# Altium footprint library my LIB.PcbLib: 14 footprints
Each footprint in its own frame and in the unit in brackets; x right, y up, seen from the top. Pads: shape width x height; smd on the part's side, far side on the other; paste and mask are expansions set on the pad; w line width, h text height; cw(c..) or ccw(c..) is an arc to the next point about the centre after c.
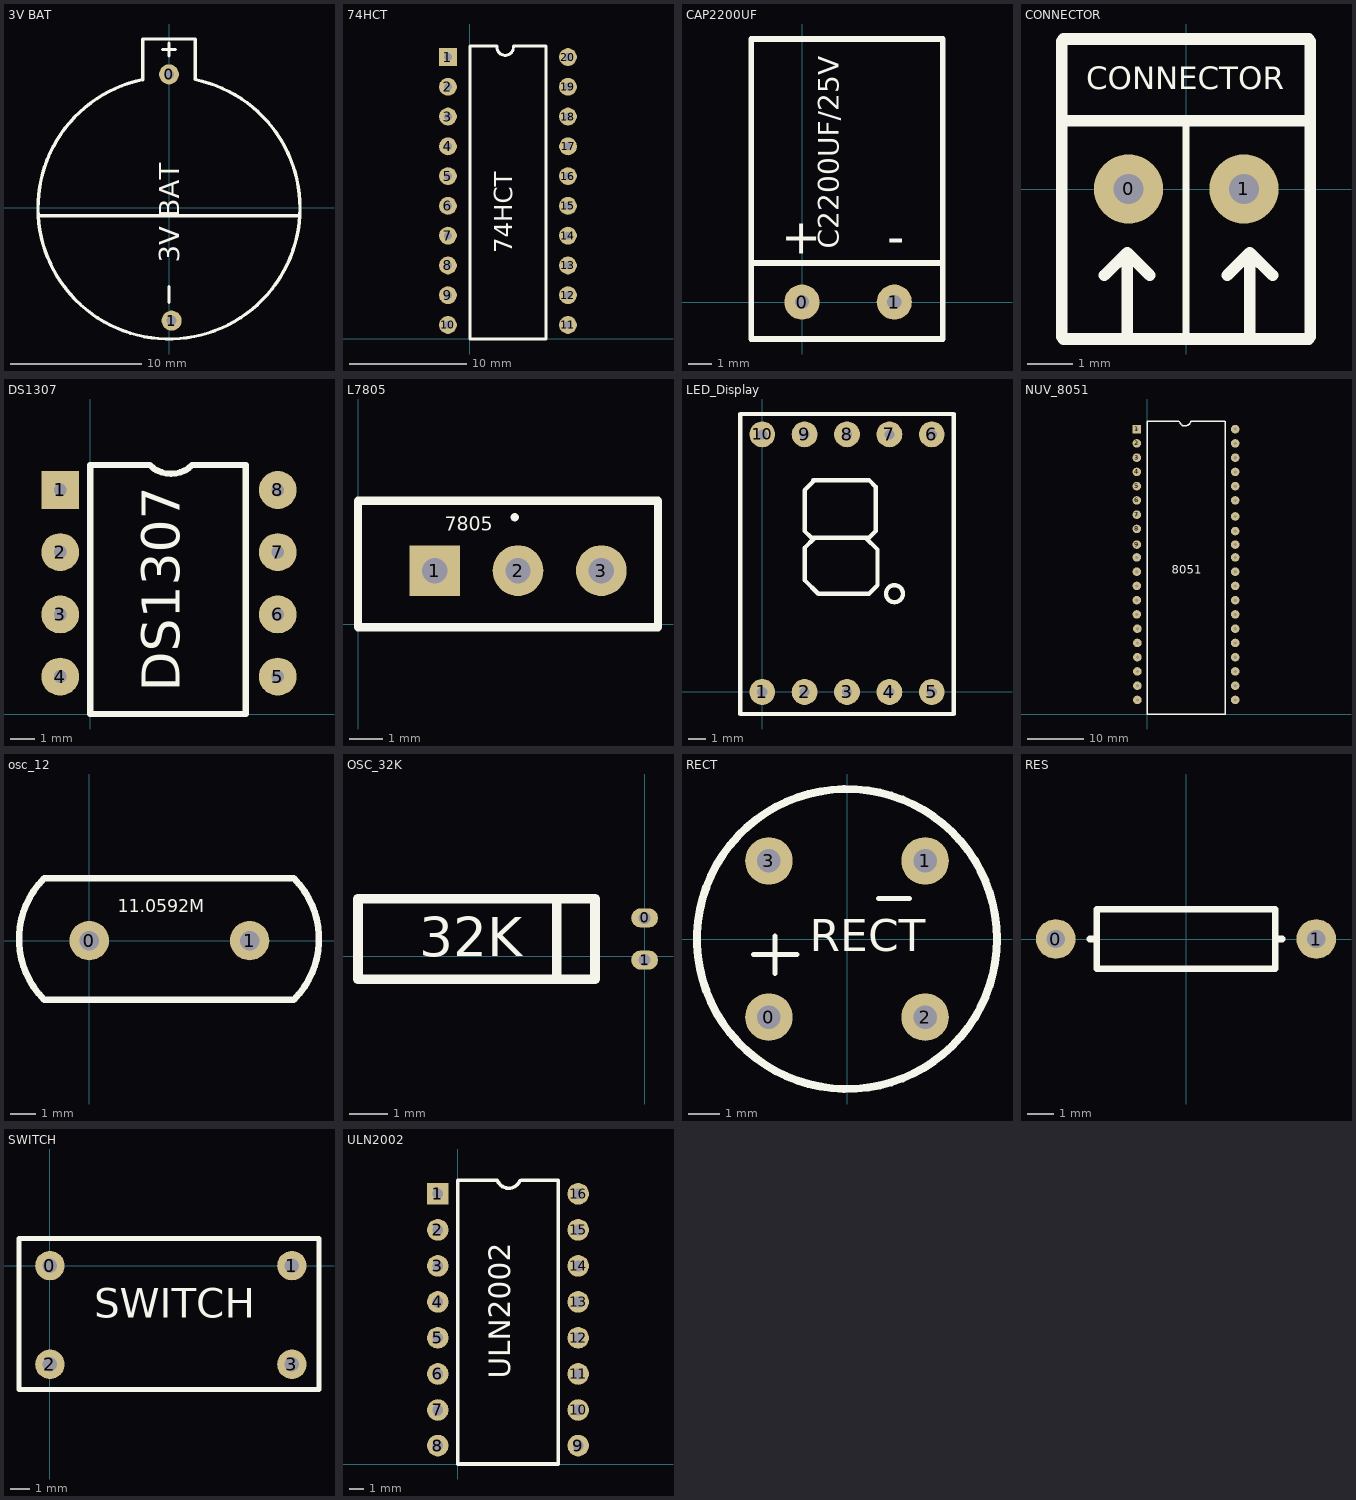
[diagram p0: the footprints below, top view; thin cyan lines are the x and y axes]

## 3V BAT [mil]
pads (2):
  round 60 hole 30: 0(0,401.57) 1(7.87,-338.58)
Top Overlay:
  lines w8.03: -19.68,476.38 19.68,476.38 ; 0,456.69 0,496.06
  lines w10: -389.76,-23.62 393.7,-23.62 ; 0,-283.46 0,-236.22 ; 77.98,385.98 cw(c0,0) -78.74,385.83 -78.74,507.87 78.74,507.87 78.74,389.76
  text "3V BAT" at 31.5,-165.35 h60

## 74HCT [mm]
pads (20):
  rect 1.524x1.524 hole 0.652: 1(-1.88,24.06)
  round 1.524 hole 0.652: 2(-1.88,21.52) 3(-1.88,18.98) 4(-1.88,16.44) 18(8.36,18.98) 19(8.36,21.52) 20(8.36,24.06)
  round 1.524 hole 0.65: 5(-1.88,13.9) 6(-1.88,11.36) 7(-1.88,8.82) 8(-1.88,6.28) 9(-1.88,3.74) 10(-1.88,1.2) 11(8.36,1.2) 12(8.36,3.74) 13(8.36,6.28) 14(8.36,8.82) 15(8.36,11.36) 16(8.36,13.9) 17(8.366,16.44)
Top Overlay:
  lines w0.254: 2.3,24.9 ccw(c3,24.9) 3.7,24.9 ; 2.3,25 0,25 0,0 6.48,0 6.48,25 ; 3.7,25 6.5,25
  text "74HCT" at 3.6,7.3 h1.52

## CAP2200UF [mil]
pads (2):
  round 60 hole 24.41: 0(0,0) 1(157.48,0)
Top Overlay:
  lines w10: -86.61,66.93 240.16,66.93 ; -86.61,448.82 -86.61,-62.99 240.16,-62.99 240.16,448.82 -82.68,448.82
  text "C2200UF/25V" at 74.8,90.55 h60
  text "+" at -35.43,82.68 h60
  text "-" at 145.67,82.68 h60

## CONNECTOR [mil]
pads (2):
  round 60 hole 25.67: 0(-50,0) 1(50,0)
Top Overlay:
  lines w6.06: 0,-129.92 0,55.12
  lines w10: -107.87,-127.95 -107.87,127.95 ; -106.3,-129.92 106.3,-129.92 ; -106.3,59.06 102.36,59.06 ; -106.3,129.92 106.3,129.92 ; -70.87,-74.8 -51.18,-55.12 ; -51.18,-125.98 -51.18,-55.12 ; -31.5,-74.8 -51.18,-55.12 ; 35.43,-74.8 55.12,-55.12 ; 55.12,-125.98 55.12,-55.12 ; 74.8,-74.8 55.12,-55.12 ; 107.48,-127.95 107.48,127.95
  text "CONNECTOR" at -86.61,86.61 h19.68

## DS1307 [mm]
pads (8):
  rect 1.524x1.524 hole 0.52: 1(-1.2,9)
  round 1.524 hole 0.52: 2(-1.2,6.5) 3(-1.2,4) 4(-1.2,1.5) 5(7.54,1.5) 6(7.54,4) 7(7.54,6.5) 8(7.54,9)
Top Overlay:
  lines w0.254: 6.2,10 4.1,10 cw(c3.25,10.85) 2.4,10 0,10 0,0 6.25,0 6.25,10
  text "DS1307" at 3.6,0.9 h1.52

## L7805 [mil]
pads (3):
  rect 60x60 hole 30: 1(90.55,62.99)
  round 60 hole 30: 2(188.98,62.99) 3(287.4,62.99)
Top Overlay:
  lines w10: 35.43,145.67 354.33,145.67 354.33,-3.94 0,-3.94 0,145.67 51.18,145.67 ; 185.04,125.98 185.04,125.98 ; 185.04,125.98 185.04,125.98
  text "7805" at 102.36,110.24 h16.54

## LED_Display [mm]
pads (10):
  round 1.524 hole 0.6: 1(0,0) 2(2.5,0) 3(5,0) 4(7.5,0) 5(10,0) 6(10,15.2) 7(7.5,15.2) 8(5,15.2) 9(2.5,15.2) 10(0,15.2)
Top Overlay:
  lines w0.254: 3,12.5 6.1,12.5 6.3,12.5 6.7,12.1 6.7,9.5 6.3,9.1 2.9,9.1 2.5,9.5 2.5,11.9 3.1,12.5 ; 3.2,9.1 3.1,9.1 2.5,8.5 2.5,6.6 3.3,5.8 6.3,5.8 6.8,6.3 6.8,8.4 6.1,9.1 ; 8.29,5.898 ccw(c7.8,5.8) 8.293,5.882 ; -1.3,-1.3 -1.3,16.4 11.3,16.4 11.3,-1.3 -1.3,-1.3

## NUV_8051 [mil]
pads (40):
  rect 60x60 hole 22.13: 1(-74.8,1998.43)
  round 60 hole 22.13: 2(-74.8,1898.43) 3(-74.8,1798.43) 4(-74.8,1698.43) 5(-74.8,1598.43) 6(-74.8,1498.43) 7(-74.8,1398.43) 8(-74.8,1298.43) 9(-74.8,1188.98) 10(-74.8,1098.43) 11(-74.8,998.43) 12(-74.8,898.43) 13(-74.8,798.43) 14(-74.8,698.43) 15(-70.87,598.43) 16(-70.87,498.43) 17(-70.87,398.43) 18(-70.87,298.43) 19(-70.87,198.43) 20(-70.87,98.43) 21(615.75,98.43) 22(615.75,198.43) 23(615.75,298.43) 24(615.75,398.43) 25(615.75,498.43) 26(615.75,598.43) 27(615.75,698.43) 28(615.75,798.43) 29(615.75,898.43) 30(615.75,998.43) 31(615.75,1098.43) 32(615.75,1188.98) 33(615.75,1283.46) 34(615.75,1385.83) 35(615.75,1498.43) 36(615.75,1598.43) 37(615.75,1698.43) 38(615.75,1798.43) 39(615.75,1898.43) 40(615.75,1998.43)
Top Overlay:
  lines w10: 220.47,2055.12 0,2055.12 0,0 544.88,0 544.88,2055.12 ; 223.18,2052.84 ccw(c263.78,2062.99) 304.96,2055.51 ; 303.15,2051.18 307.09,2055.12 543.31,2055.12
  text "8051" at 169.29,984.25 h60

## osc_12 [mil]
pads (2):
  round 60 hole 30: 0(0,0) 1(244.09,0)
Top Overlay:
  lines w10: -68.62,-90 cw(c23.88,2.5) -68.62,95 311.38,95 cw(c218.88,2.5) 311.38,-90 -68.62,-90
  text "11.0592M" at 43.31,43.31 h19.68

## OSC_32K [mm]
pads (2):
  oval 0.7x0.5 hole 0.32: 0(0,1) 1(0,-0.1)
Top Overlay:
  lines w0.254: -2.3,-0.6 -2.3,1.5 ; -7.5,-0.6 -1.3,-0.6 -1.3,1.5 -7.5,1.5 -7.5,-0.6
  text "32K" at -5.9,0 h1.02

## RECT [mm]
pads (4):
  round 1.524 hole 0.75: 0(-2.5,-2.5) 1(2.5,2.5) 2(2.5,-2.5)
  round 1.524 hole 0.752: 3(-2.5,2.5)
Top Overlay:
  circle w0.254: c0,0 r4.8
  lines w0.154: -3,-0.5 -1.6,-0.5 ; -2.3,-1.1 -2.3,0.1 ; 1,1.3 2,1.3
  text "RECT" at -1.2,-0.4 h1.02

## RES [mil]
pads (2):
  round 60 hole 27.56: 0(-196.85,0) 1(196.85,0)
Top Overlay:
  lines w10: -145.67,0 -135,0 ; 140,0 145.67,0 ; -135,-45 -96.25,-45 -40,-45 40,-45 110,-45 135,-45 135,45 -135,45 -135,-45

## SWITCH [mil]
pads (4):
  round 60 hole 29.61: 0(0,0) 1(492.13,0) 2(0,-200.79) 3(492.13,-200.79)
Top Overlay:
  lines w10: 102.36,55.12 547.24,55.12 547.24,-251.97 -62.99,-251.97 -62.99,55.12 110.24,55.12
  text "SWITCH" at 90.55,-106.3 h60

## ULN2002 [mil]
pads (16):
  rect 60x60 hole 30: 1(-55.12,750)
  round 60 hole 30: 2(-55.12,650) 3(-55.12,550) 4(-55.12,450) 5(-55.12,350.39) 6(-55.12,250) 7(-55.12,150) 8(-55.12,51.18) 9(334.65,51.18) 10(334.65,150) 11(334.65,250) 12(334.65,350.39) 13(334.65,450) 14(334.65,550) 15(334.65,650) 16(334.65,750)
Top Overlay:
  lines w10: 106.3,787.4 0,787.4 0,0 279.53,0 279.53,787.4 177.17,787.4 ; 110.24,787.4 ccw(c141.73,799.21) 172.47,785.55
  text "ULN2002" at 145.67,236.22 h60